# EAGLE library part MAX31855KASA+ (library G1Tech-Testing)
https://datasheets.maximintegrated.com/en/ds/MAX31855.pdf
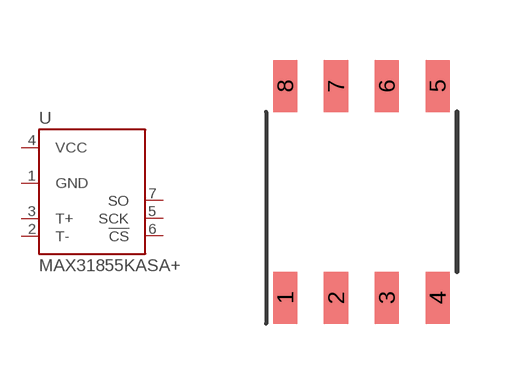
[diagram p2: symbol with the pads of SO08; footprint SO08]

Designator prefix U

## MAX31855KASA+  [SO08]
1  GND  pwr
2  T-
3  T+
4  VCC  pwr
5  SCK
6  !CS
7  SO

## Footprint SO08 (pad centres in mm)
Reflow soldering footprint for SO8 https://www.nxp.com/docs/en/package-information/SOT96-1.pdf
smd 0.6 x 1.3: 1 -1.905,-2.65; 2 -0.635,-2.65; 3 0.635,-2.65; 4 1.905,-2.65; 5 1.905,2.65; 6 0.635,2.65; 7 -0.635,2.65; 8 -1.905,2.65